# Altium integrated library Inductors.IntLib: 3 symbols
Pins are listed as number, name and electrical type; pins without a type are passive.

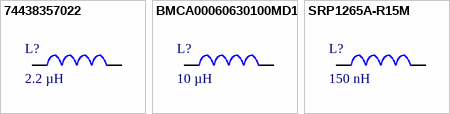
[diagram p0: symbols 74438357022 to SRP1265A-R15M]

## 74438357022
designator L?, comment 2.2 µH
2.2 µH Shielded Molded Inductor 5.2 A 26mOhm Max 1616 (4040 Metric); Manufacturer: Wurth Elektronik; Manufacturer Part Number: 74438357022; Core Material: Metal Composite; Current - Saturation (Isat): 7A; Current Rating (Amps): 5.2A; Frequency - Self Resonant: 35MHz; Tolerance: ±20%; Category: Fixed Inductor; Datasheet: https://www.we-online.com/components/products/datasheet/74438357022.pdf; DC Resistance (DCR): 26mOhm Max; Eco Plan: -; Inductance: 2.2 µH; Operating Temperature: -40°C ~ 125°C; Package / Case: 1616 (4040 Metric); Q @ Freq: -; Ratings: AEC-Q200; Series: WE-MAPI; Shielding: Shielded; Supplier 1: Digi-Key; Supplier Part Number 1: 732-11201-1-ND; Type: Molded
footprint 74438357022 (2.2 µH Shielded Molded Inductor 5.2 A 26mOhm Max 1616 (4040 Metric))
pins: 1 "Inductor_Pin_01", 2 "Inductor_Pin_02"

## BMCA00060630100MD1
designator L?, comment 10 µH
10 µH Shielded Molded Inductor 3 A 102mOhm Max Nonstandard; Manufacturer: Pulse Electronics; Manufacturer Part Number: BMCA00060630100MD1; Core Material: Magnetic metal powder; Current - Saturation (Isat): 7A; Current Rating (Amps): 3A; Tolerance: ±20%; Category: Fixed Inductor; Datasheet: https://yageogroup.com/content/datasheet/asset/file/DATASHEET_BMCA00060630_SERIES; DC Resistance (DCR): 102mOhm Max; Eco Plan: -; Frequency - Self Resonant: -; Inductance: 10 µH; Operating Temperature: -55°C ~ 125°C; Package / Case: Nonstandard; Q @ Freq: -; Ratings: -; Series: BMCA; Shielding: Shielded; Supplier 1: Digi-Key; Supplier Part Number 1: 553-BMCA00060630100MD1CT-ND; Type: Molded
footprint BMCA00060630100MD1 (10 µH Shielded Molded Inductor 3 A 102mOhm Max Nonstandard)
pins: 1 "Inductor_Pin_01", 2 "Inductor_Pin_02"

## SRP1265A-R15M
designator L?, comment 150 nH
150 nH Shielded Drum Core, Wirewound Inductor 55 A 0.6mOhm Max Nonstandard; Manufacturer Part Number: SRP1265A-R15M; Manufacturer: Bourns Inc; Core Material: Carbonyl Powder; Current - Saturation (Isat): 118A; Current Rating (Amps): 55A; Eco Plan: RoHS & Green; Frequency - Self Resonant: 210MHz; Q @ Freq: 10 @ 100kHz; Tolerance: ±20%; Category: Fixed Inductor; Datasheet: https://www.bourns.com/docs/Product-Datasheets/SRP1265A.pdf; DC Resistance (DCR): 0.6mOhm Max; Inductance: 150 nH; Operating Temperature: -40°C ~ 150°C; Package / Case: Nonstandard; Ratings: AEC-Q200; Series: SRP1265A; Shielding: Shielded; Supplier 1: Digi-Key; Supplier Part Number 1: SRP1265A-R15MCT-ND; Type: Drum Core, Wirewound
footprint SRP1265A-R15M (150 nH Shielded Drum Core, Wirewound Inductor 55 A 0.6mOhm Max Nonstandard)
pins: 1 "Inductor_Pin_01", 2 "Inductor_Pin_02"